# Altium integrated library HORNET-IPG.IntLib: 137 symbols (part 1 of 4)
Pins are listed as number, name and electrical type; pins without a type are passive.

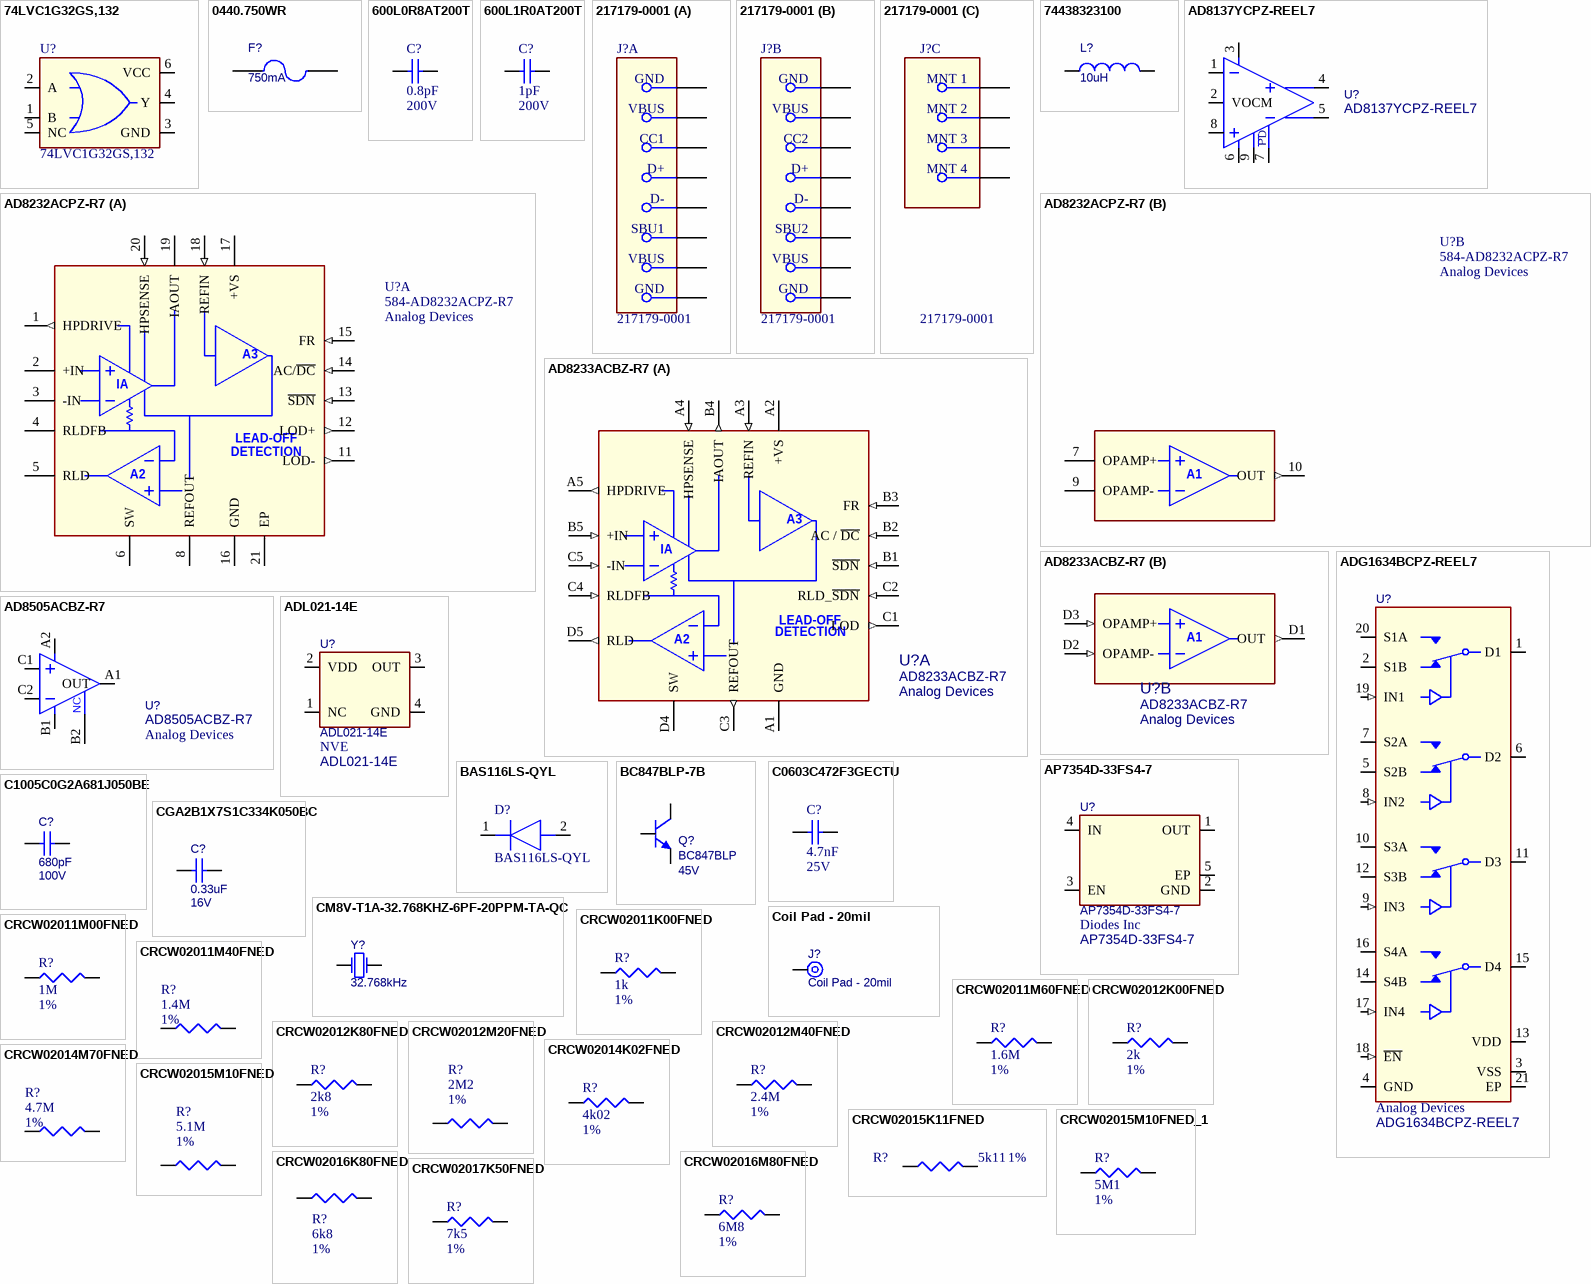
[diagram p0: symbols 74LVC1G32GS,132 to CRCW02017K50FNED]

## 74LVC1G32GS,132
designator U?
OR Gate IC 1 Channel 6-XSON, SOT1202 (1x1); Manufacturer: Nexperia; Operating Supply Current: 4 uA; Shutdown Capabilities: No; Category: Logic Gate; Type: OR; Manufacturer Part Number: 74LVC1G32GS,132; Supplier: TBD; Supplier Part Number: TBD; Mounting Type: SMD; Height: 0.46; Supplier 1: Mouser; Supplier Part Number 1: 771-74LVC1G32GS132; Supplier 2: Digikey; Supplier Part Number 2: 1727-74LVC1G32GS,132CT-ND; Supplier 3: Digikey; Supplier Part Number 3: 1727-74LVC1G32GS,132DKR-ND; Supplier 4: Digikey; Supplier Part Number 4: 1727-74LVC1G32GS,132TR-ND
footprint 74LVC1G3157GS132
pins: 1 B, 2 A, 3 GND, 4 Y, 5 NC, 6 VCC

## 0440.750WR
designator F?  value 750mA  (hidden comment: 0440.750WR)
Fuse, 750mA, 63V, 1206; Manufacturer: Littelfuse; Medical Grade MFR PN: 0440.750WRA; PCB Footprint: fuse1206_reduced; Review: 020823; Length (mm): 3.20 ±0.18; Medical Grade MFR: Littelfuse; Rating: 750mA; Thickness (mm): 0.84 ±0.01; Width (mm): 1.63 ±0.10; Category: Fuse; Supplier 1: Digi-Key; Supplier Part Number 1: F1603CT-ND; Status: Approved; Manufacturer Part Number: 0440.750WR
footprint LITTELFUSE_440series_1206_REDUCED (Fuse, 2-Leads, Body 3.20x1.63mm, IPC High Density)
pins: 1, 2

## 600L0R8AT200T
designator C?  value 0.8pF  Voltage Rating: 200V  (hidden comment: 600L0R8AT200T)
Capacitor, 0.8pF, Silicon RF, 200V, Tolerance 0.05pF, 0402, Implant-grade; Manufacturer: Kyocera AVX; Medical Grade Manufacturer: TBD; Temperature Coefficient: 30 ppm/°C; Category: Capacitor; Manufacturer Part Number: 600L0R8AT200T; Medical Grade Manufacturer Part Number: TBD; Size Code: 0402; Supplier: TBD; Supplier Part Number: TBD; Height: 0.6mm; Width: 0.51mm; Length: 1.05mm; Tolerance: 0.05pF; Dielectric: -; Supplier 1: Mouser; Supplier Part Number 1: 581-600L0R8AT
footprint CAP0402_REDUCED (Chip Capacitor, Body 1.0x0.5mm, Height 0.6mm, IPC High Density)
pins: 1, 2

## 600L1R0AT200T
designator C?  value 1pF  Voltage Rating: 200V  (hidden comment: 600L1R0AT200T)
Capacitor, 1pF, RF Capacitors, 200V, Tolerance 0.01pF, 0402, Implant-grade; Manufacturer: Kyocera AVX; Medical Grade Manufacturer: TBD; Temperature Coefficient: 30 ppm/°C; Category: Capacitor; Manufacturer Part Number: 600L1R0AT200T; Medical Grade Manufacturer Part Number: TBD; Size Code: 0402; Supplier: TBD; Supplier Part Number: TBD; Height: 0.6mm; Width: 0.51mm; Length: 1.02mm; Tolerance: 0.01pF; Dielectric: -; Supplier 1: Mouser; Supplier Part Number 1: 581-600L1R0AT
footprint CAP0402_REDUCED (Chip Capacitor, Body 1.0x0.5mm, Height 0.6mm, IPC High Density)
pins: 1, 2

## 217179-0001
designator J?
CONN RCP USB2.0 TYP C 16P SMD RA; Manufacturer: Molex; Number Of Contacts: 16; Voltage Rating: 30V; Shielding: true; Current Rating: 0.25/1.25/5A; Conn Orientation: Right Angle; Contact Material: Gold,Nickel; ComponentLink2Description: Datasheet; RoHS: TRUE; ComponentLink2URL: https://www.molex.com/webdocs/datasheets/pdf/en-us/1054500101_IO_CONNECTORS.pdf; Temperature: -30°C to +85°C; Usb Standard: USB 2.0; Manufacturer Part Number: 217179-0001; Supplier 1: Mouser; Supplier Part Number 1: 538-217179-0001
footprint 217179-0001; pin to pad B1>A12 B4>A9 B9>A4 B12>A1
part A pins: A1 GND, A4 VBUS, A5 CC1, A6 D+, A7 D-, A8 SBU1, A9 VBUS, A12 GND
part B pins: B1 GND, B4 VBUS, B5 CC2, B6 D+, B7 D-, B8 SBU2, B9 VBUS, B12 GND
part C pins: 1 MNT 1, 2 MNT 2, 3 MNT 3, 4 MNT 4

## 74438323100
designator L?  value 10uH  (hidden comment: 74438323100)
Inductor, 10uH, 600mA, 20%, 1008; Manufacturer: Wurth; Medical Grade MFR: TBD; Review: 020823; Length (mm): 2.50 ±0.20; Medical Grade MFR PN: TBD; PCB Footprint: TBD; Rating: 600mA; Thickness (mm): 1.00; Width (mm): 2.00 ±0.20; Category: Inductor; Supplier 1: Rs; Supplier Part Number 1: 7922736P; Status: Approved; Manufacturer Part Number: 74438323100
simulation model INDUCTOR (Inductor)
signal-integrity model Inductor
footprint WURTH_74438323100_REDUCED (Inductor, Chip; 2.50 mm L X 2.00 mm W X 1.00 mm H body)
pins: 1, 2

## AD8137YCPZ-REEL7
designator U?
Differential Amplifier, 110 MHz, DFN-8; Manufacturer: Analog Devices; Medical Grade MFR: TBD; Category: IC; Length (mm): 3.00 ±0.10; Medical Grade MFR PN: TBD; Package Description: TBD; PCB Footprint: TBD; Rating: TBD; Thickness (mm): 0.75 ±0.05; Value: AD8137YCPZ-REEL7; Width (mm): 3.00 ±0.10; Supplier 1: Digi-Key; Supplier Part Number 1: 505-AD8137YCPZ-REEL7CT-ND; Status: *; Review: *; Manufacturer Part Number: AD8137YCPZ-REEL7
footprint AD_CP-8-13 (PSON, 8-Leads, Body 3.00x3.00mm, Pitch 0.50mm, Thermal Pad 1.74x1.45mm, IPC High Density)
pins: 1 -IN, 2 VOCM, 3 VS+ (power), 4 +OUT, 5 -OUT, 6 VS- (power), 7 ~{PD}, 8 +IN, 9 EP
text: PD

## AD8232ACPZ-R7
designator U?  Supplier Part Number: 584-AD8232ACPZ-R7  Manufacturer: Analog Devices  (hidden comment: AD8232ACPZ-R7)
Analog Circuit, 1 Func, 1 Channel; Channels: 1; Max Supply Voltage: 3.5V; Min Supply Voltage: 2V; Nominal Supply Voltage: 3V; Voltage supply: 2-3.5V; Current supply: 170uA; CMRR: 80dB; Gain: 100V/V; Bandwidth: 2kHz; Supplier: Mouser; Manufacturer Part Number: AD8232ACPZ-R7; RoHS: Yes; Category: Amplifiers - Op Amps, Buffer, Instrumentation; Stock: 3930; Pricing: 1=4,71, 10=4,07, 50=4,07, 100=3,57, 1000=2,53, 10000=2,37 (USD); Case/Package: HVQCCN; Pins: 20; Package Shape: Square; Min Operating Temperature: -40°C; Max Operating Temperature: 85°C; Package Style: CHIP CARRIER, HEAT SINK/SLUG, VERY THIN PROFILEMeter; Surface Mount: Yes; Terminal Form: No Lead; Terminal Position: QUAD; Throw Configuration: ANALOG CIRCUIT; JESD-30 Code: S-XQCC-N20; Length: 4mm; Width: 4mm; Height - Seated (Max): 0.8mm; Terminal Pitch: 0.5mm; Temperature Grade: INDUSTRIAL; RoHS Compliant: Yes; Reach SVHC Compliant: Yes; ComponentLink1URL: https://datasheet.ciiva.com:443/pdfs/VipMasterIC/IC/ANDI/ANDI-S-A0005264682/ANDI-S-A0005264682-1.pdf?src-supplier=IHS+Markit; ComponentLink1Description: https://datasheet.ciiva.com:443/pdfs/VipMasterIC/IC/ANDI/ANDI-S-A0005264682/ANDI-S-A0005264682-1.pdf?src-supplier=IHS+Markit; ComponentLink2URL: https://datasheet.ciiva.com/6579/ad8232-6579751.pdf?src-supplier=Digi-Key; ComponentLink2Description: https://datasheet.ciiva.com/6579/ad8232-6579751.pdf?src-supplier=Digi-Key; ComponentLink3URL: https://datasheet.ciiva.com/6579/ad8232-6579754.pdf?src-supplier=Digi-Key; ComponentLink3Description: https://datasheet.ciiva.com/6579/ad8232-6579754.pdf?src-supplier=Digi-Key; ComponentLink4URL: https://datasheet.ciiva.com/6579/ad8232-6579770.pdf?src-supplier=Digi-Key; ComponentLink4Description: https://datasheet.ciiva.com/6579/ad8232-6579770.pdf?src-supplier=Digi-Key; Supplier 1: Mouser; Supplier Part Number 1: 584-AD8232ACPZ-R7
footprint FP-CP-20-8-IPC_C
part A pins: 1 HPDRIVE (out), 2 +IN (hiz), 3 -IN (hiz), 4 RLDFB, 5 RLD, 6 SW, 8 REFOUT, 11 LOD- (out), 12 LOD+ (out), 13 ~{SDN} (in), 14 AC/~{DC} (in), 15 FR (in), 16 GND (power), 17 +VS (power), 18 REFIN (in), 19 IAOUT, 20 HPSENSE (in), 21 EP (power)
part B pins: 7 OPAMP+ (hiz), 9 OPAMP- (hiz), 10 OUT (out)
part A text: A3; IA; LEAD-OFF; DETECTION; A2
part B text: A1

## AD8233ACBZ-R7
designator U?  Manufacturer: Analog Devices  (hidden comment: AD8233ACBZ-R7)
Analog front end, ECG, RLD amp, BGA-20; Medical Grade MFR: TBD; Voltage supply: 1.7-3.5V; Current supply: 50uA; CMRR: 86dB; Gain: 40dB; Bandwidth: 1kHz; Category: IC; Length (mm): 2.04 ±0.04; Medical Grade MFR PN: TBD; Package Description: TBD; PCB Footprint: TBD; Rating: TBD; Thickness (mm): 0.50 ±0.06; Value: AD8233ACBZ-R7; Width (mm): 1.71 ±0.04; Supplier 1: Digi-Key; Supplier Part Number 1: 505-AD8233ACBZ-R7CT-ND; Status: *; Review: *; Manufacturer Part Number: AD8233ACBZ-R7
footprint AD8233ACBZ-R7 (IC ECG FRONT END 20WLCSP)
part A pins: A1 GND (power), A2 +VS (power), A3 REFIN (in), A4 HPSENSE (in), A5 HPDRIVE (out), B1 ~{SDN} (in), B2 AC / ~{DC} (in), B3 FR (in), B4 IAOUT (out), B5 +IN (in), C1 LOD (out), C2 RLD_~{SDN} (in), C3 REFOUT (out), C4 RLDFB (in), C5 -IN (in), D4 SW, D5 RLD (out)
part B pins: D1 OUT (out), D2 OPAMP- (in), D3 OPAMP+ (in)
part A text: IA; LEAD-OFF; DETECTION

## AD8505ACBZ-R7
designator U?  Manufacturer: Analog Devices  (hidden comment: AD8505ACBZ-R7)
Op Amp, Rail-to-Rail, 95kHz, WLCSP-6; Medical Grade MFR: TBD; Rating: 5.5V; Category: IC; Length (mm): 1.39 ±0.04; Medical Grade MFR PN: TBD; PCB Footprint: TBD; Thickness (mm): 0.56 ±0.05; Width (mm): 0.90 ±0.04; Package Description: TBD; Supplier 1: Digi-Key; Supplier Part Number 1: AD8505ACBZ-R7CT-ND; Status: *; Review: *; Manufacturer Part Number: AD8505ACBZ-R7; Value: AD8505ACBZ-R7
footprint AD8505ACBZ-R7 (AD8505ACBZ-6-Ball Wafer Level Chip Scale Package)
pins: A1 OUT, A2 V+ (power), B1 V- (power), B2 NC (power), C1 IN+, C2 IN-

## ADG1634BCPZ-REEL7
designator U?  Manufacturer: Analog Devices  (hidden comment: ADG1634BCPZ-REEL7)
IC SWITCH SPDTX4 4.5OHM 20LFCSP; PCB Footprint: TBD; Category: IC; Length (mm): 4.00 ±0.10; Manufacturer Part Number: ADG1634BCPZ-REEL7; Medical Grade MFR: N/A; Medical Grade MFR PN: N/A; Rating: TBD; Thickness (mm): 0.75 ±0.05; Width (mm): 4.00 ±0.10; Package Description: TBD; Supplier 1: Digi-Key; Supplier Part Number 1: 505-ADG1634BCPZ-REEL7CT-ND; Status: *; Review: *; Value: ADG1634BCPZ-REEL7
footprint AD_CP-20-10 (Quad Flat No-Lead (QFN with Tab), 0.50 mm pitch; square, 5 pin X 5 pin, 4.00 mm L X 4.00 mm W X 0.80 mm H body)
pins: 1 D1, 2 S1B, 3 VSS (power), 4 GND (power), 5 S2B, 6 D2, 7 S2A, 8 IN2 (in), 9 IN3 (in), 10 S3A, 11 D3, 12 S3B, 13 VDD (power), 14 S4B, 15 D4, 16 S4A, 17 IN4 (in), 18 ~{EN} (in), 19 IN1 (in), 20 S1A, 21 EP (power)

## ADL021-14E
designator U?  Manufacturer: NVE
Magnet Sensor, 15 Gauss, ULLGA4, Implant-grade; Medical Grade MFR PN: BD020-14E; PCB Footprint: TBD; Length (mm): 1.10; Medical Grade MFR: NVE; Rating: N/A; Thickness (mm): 0.40; Value: ADL021-14E; Width (mm): 1.10; Category: IC; Package Description: TBD; Supplier 1: Digi-Key; Supplier Part Number 1: 391-ADL021-14ECT-ND; Status: *; Review: *; Manufacturer Part Number: ADL021-14E
footprint NVE_ULLGA4 (PSON, 4-Leads, Body 1.10x1.10mm, Pitch 0.65mm, IPC High Density)
pins: 1 NC, 2 VDD (power), 3 OUT, 4 GND (power)

## AP7354D-33FS4-7
designator U?  Manufacturer: Diodes Inc
LDO Regulator, 3.3V, Shutdown, DFN1010-4; Medical Grade MFR: TBD; Length (mm): 1.00 ±0.05; Medical Grade MFR PN: TBD; PCB Footprint: TBD; Rating: 3.3V; Thickness (mm): 0.39 ±0.01; Value: AP7354D-33FS4-7; Width (mm): 1.00 ±0.05; Category: IC; Package Description: TBD; Supplier 1: Digi-Key; Supplier Part Number 1: AP7354D-33FS4-7DICT-ND; Supplier Link: https://octopart.com/search?q=AP7354D-33FS4-7&filter%5Bfields%5D%5Bbrand.name%5D%5B%5D=Diodes+Inc.4-7; Status: *; Review: *; Manufacturer Part Number: AP7354D-33FS4-7
footprint X2-DFN1010-4 (Type B) (DFN, 5-Leads, Body 1.00x1.10mm, Pitch 0.65mm)
pins: 1 OUT, 2 GND (power), 3 EN, 4 IN, 5 EP

## BAS116LS-QYL
designator D?
Diode; Manufacturer: Nexperia; Datasheet Link: https://assets.nexperia.com/documents/data-sheet/BAS116LS-Q.pdf; Height: 0.5mm; Mouser Part Number: 771-BAS116LS-QYL; Mouser Price/Stock: https://www.mouser.co.uk/ProductDetail/Nexperia/BAS116LS-QYL?qs=Li%252BoUPsLEnuSHegtSMB1TQ%3D%3D; Arrow Part Number: BAS116LS-QYL; Arrow Price/Stock: https://www.arrow.com/en/products/bas116ls-qyl/nexperia?region=nac; Supplier 1: Digikey; Supplier Part Number 1: 1727-BAS116LS-QYLCT-ND; Manufacturer Part Number: BAS116LS-QYL
footprint BAS116LSQYL
pins: 1 K, 2 A

## BC847BLP-7B
designator Q?  value BC847BLP  Rating: 45V  (hidden comment: BC847BLP-7B)
Transistor, NPN, 45V, 100mA, DFN1006; Manufacturer: Diodes Inc; Medical Grade MFR: TBD; Category: Transistor; Length (mm): 1.00 ±0.08; Medical Grade MFR PN: TBD; PCB Footprint: TBD; Thickness (mm): 0.50 ±0.03; Width (mm): 0.60 ±0.08; Supplier 1: Digi-Key; Supplier Part Number 1: BC847BLP-7BDICT-ND; Status: *; Review: *; Manufacturer Part Number: BC847BLP-7B
footprint DIODESINC_X1-DFN1006-3 (DFN, 3-Leads, Body 0.5x1.01mm, Pitch 0.65mm, IPC High Density)
pins: 1 B, 2 E, 3 C

## C0603C472F3GECTU
designator C?  value 4.7nF  Voltage Rating: 25V  (hidden comment: C0603C472F3GECTU)
Capacitor, 4.7nF, C0G, 25V, 1%, 0603, Implant-grade; Manufacturer: KEMET; Medical Grade Manufacturer: TBD; Category: Capacitor; Temperature Coefficient: -; Manufacturer Part Number: C0603C472F3GECTU; Medical Grade Manufacturer Part Number: TBD; Size Code: 0805; Supplier: -; Supplier Part Number: -; Height: 0.78mm; Width: 1.25mm; Length: 2mm; Tolerance: 1%; Dielectric: C0G; Supplier 1: Mouser; Supplier Part Number 1: 80-C0603C472F3GEC
footprint CAP0603_REDUCED (Chip Capacitor, Body 1.6x0.8mm, Height 1.0mm, IPC High Density)
pins: 1, 2

## C1005C0G2A681J050BE
designator C?  value 680pF  Rating: 100V  (hidden comment: C1005C0G2A681J050BE)
Capacitor, 680pF, C0G, 100V, 5%, 0402; Manufacturer: TDK; Medical Grade MFR: TBD; Review: 020823; Length (mm): 1.00 ±0.10; Medical Grade MFR PN: TBD; PCB Footprint: TBD; Thickness (mm): 0.50 ±0.10; Width (mm): 0.50 ±0.10; Category: Capacitor; Package Description: 0402; Supplier 1: Arrow Electronics; Supplier Part Number 1: C1005C0G2A681J050BE; Status: Approved; Manufacturer Part Number: C1005C0G2A681J050BE
simulation model CAP (Capacitor)
signal-integrity model Cap
footprint CAP0402_REDUCED (Chip Capacitor, Body 1.0x0.5mm, Height 0.6mm, IPC High Density)
pins: 1, 2

## CGA2B1X7S1C334K050BC
designator C?  value 0.33uF  Rating: 16V  (hidden comment: CGA2B1X7S1C334K050BC)
Capacitor, 0.33uF, X7S, 16V, 10%, 0402; Manufacturer: TDK; Medical Grade MFR: TBD; PCB Footprint: cap0402_reduced; Review: 020823; Length (mm): 1.00 ±0.05; Medical Grade MFR PN: TBD; Thickness (mm): 0.50 ±0.05; Width (mm): 0.50 ±0.05; Category: Capacitor; Package Description: 0402; Supplier 1: Arrow Electronics; Supplier Part Number 1: CGA2B1X7S1C334K050BC; Status: Approved; Manufacturer Part Number: CGA2B1X7S1C334K050BC
simulation model CAP (Capacitor)
signal-integrity model Cap
footprint CAP0402_REDUCED (Chip Capacitor, Body 1.0x0.5mm, Height 0.6mm, IPC High Density)
pins: 1, 2

## CM8V-T1A-32.768KHZ-6PF-20PPM-TA-QC
designator Y?  value 32.768kHz  (hidden comment: CM8V-T1A-32.768KHZ-6PF-20PPM-TA-QC)
CRYSTAL 32.7680KHZ 6PF SMD; Manufacturer: Micro Crystal; Medical Grade MFR PN: CC8V-T1A32.768kHz6.0pF±20ppmTAQM; PCB Footprint: TBD; Review: 020823; Category: Crystal; Length (mm): 2.00; Medical Grade MFR: Micro Crystal; Rating: N/A; Thickness (mm): 0.67; Width (mm): 1.20; Package Description: CC8V; Supplier 1: Digi-Key; Supplier Part Number 1: 2195-CM8V-T1A-32.768KHZ-6PF-20PPM-TA-QCCT-ND; Status: Approved; Manufacturer Part Number: CM8V-T1A-32.768KHZ-6PF-20PPM-TA-QC
footprint MICROCRYSTAL_CC8V-T1A (DFN, 2-Leads, Body 1.20x2.00mm, Pitch 1.47mm, IPC High Density)
pins: 1, 2

## Coil Pad - 20mil
designator J?  (no BOM)
Coil TH pad, 20mil; PCB Footprint: TBD; Value: Coil Solder Pad; Category: Coil Solder Pad; Length (mm): TBD; Manufacturer: N/A; Manufacturer PN: N/A; Medical Grade MFR: N/A; Medical Grade MFR PN: N/A; Rating: N/A; Thickness (mm): N/A; Width (mm): TBD; Package Description: N/A; Status: *; Review: *
footprint FEEDHOLE_20mil (Feedthrough hole 20mil)
pins: 1

## CRCW02011K00FNED
designator R?  value 1k  Tolerance: 1%  (hidden comment: CRCW02011K00FNED)
Fixed Resistor, Metal Glaze/thick Film, 0.05W, 1000ohm, 30V, 1% +/-Tol, 200ppm/Cel, Surface Mount, 0201; Manufacturer: Vishay; Medical Grade MFR: Mini-Systems; Medical Grade MFR PN: MWA96SM-1001F-NS62TR; Power: 50mW; Rated Temperature: 70°C; Temperature Coefficient: 200ppm/°C; Package Height: 0.23mm; Package Length: 0.6mm; Package Width: 0.3mm; Reference Standard: AEC-Q200; Category: Chip SMD Resistors; Supplier: Digikey; Supplier Part Number: 541-1.00KABCT-ND; Manufacturer Part Number: CRCW02011K00FNED; RoHS: Yes; Stock: 303224; Pricing: 1=0,1, 10=0,037, 50=0,0242, 100=0,0204, 500=0,01426, 1000=0,01241, 5000=0,00924 (USD); Mounting Technology: Surface Mount; Pins: 2; Package Shape: Rectangular; Case/Package: 0201; Terminal Finish: Nickel; Min Operating Temperature: -55°C; Max Operating Temperature: 155°C; JESD-609 Code: e3; Resistor Type: FIXED RESISTOR; Construction: Chip; Package Style: SMTMeter; Packaging: Tape and Reel; Technology: METAL GLAZE/THICK FILM; Termination: Wraparound; Working Voltage: 30V; Reach SVHC Compliant: Yes; RoHS Compliant: Yes; ComponentLink1URL: https://datasheet.ciiva.com:443/pdfs/VipMasterIC/IC/VISH/VISH-S-A0002932828/VISH-S-A0002932828-1.pdf?src-supplier=IHS+Markit; ComponentLink1Description: https://datasheet.ciiva.com:443/pdfs/VipMasterIC/IC/VISH/VISH-S-A0002932828/VISH-S-A0002932828-1.pdf?src-supplier=IHS+Markit; ComponentLink2URL: https://datasheet.ciiva.com/7983/1719906-7983324.pdf?src-supplier=Element14; ComponentLink2Description: https://datasheet.ciiva.com/7983/1719906-7983324.pdf?src-supplier=Element14; ComponentLink3URL: https://datasheet.ciiva.com/7983/1719906-7983323.pdf?src-supplier=Element14; ComponentLink3Description: https://datasheet.ciiva.com/7983/1719906-7983323.pdf?src-supplier=Element14; ComponentLink4URL: https://datasheet.ciiva.com/22692/1719906-22692751.pdf?src-supplier=Element14; ComponentLink4Description: https://datasheet.ciiva.com/22692/1719906-22692751.pdf?src-supplier=Element14; ComponentLink5URL: https://datasheet.ciiva.com/22665/1825492-22665818.pdf?src-supplier=Element14; ComponentLink5Description: https://datasheet.ciiva.com/22665/1825492-22665818.pdf?src-supplier=Element14; ComponentLink6URL: https://datasheet.ciiva.com/2474/crcw0201e3-2474801.pdf?src-supplier=Digikey; ComponentLink6Description: https://datasheet.ciiva.com/2474/crcw0201e3-2474801.pdf?src-supplier=Digikey; ComponentLink7URL: https://datasheet.ciiva.com/2474/crcw0201e3-2474802.pdf?src-supplier=Digikey; ComponentLink7Description: https://datasheet.ciiva.com/2474/crcw0201e3-2474802.pdf?src-supplier=Digikey; ComponentLink8URL: https://datasheet.ciiva.com/2474/crcw0201e3-2474800.pdf?src-supplier=Digikey; ComponentLink8Description: https://datasheet.ciiva.com/2474/crcw0201e3-2474800.pdf?src-supplier=Digikey; ComponentLink9URL: https://datasheet.ciiva.com/22871/70202042-22871422.pdf?src-supplier=Allied+Electronics; ComponentLink9Description: https://datasheet.ciiva.com/22871/70202042-22871422.pdf?src-supplier=Allied+Electronics; ComponentLink10URL: https://datasheet.ciiva.com/3255/crcw0201e3-3255929.pdf?src-supplier=Avnet; ComponentLink10Description: https://datasheet.ciiva.com/3255/crcw0201e3-3255929.pdf?src-supplier=Avnet; Supplier 1: Arrow Electronics; Supplier Part Number 1: CRCW02011K00FNED
footprint R0201_C (Chip Resistor, 2-Leads, Body 0.60x0.30mm, IPC High Density)
pins: 1, 2

## CRCW02011M00FNED
designator R?  value 1M  Tolerance: 1%  (hidden comment: CRCW02011M00FNED)
Fixed Resistor, Metal Glaze/thick Film, 0.05W, 1000000ohm, 30V, 1% +/-Tol, 200ppm/Cel, Surface Mount, 0201; Manufacturer: Vishay; Medical Grade MFR: Mini-Systems; Medical Grade MFR PN: MWA96SM-1004F-NS62TR; Power: 50mW; Rated Temperature: 70°C; Temperature Coefficient: 200ppm/°C; Package Height: 0.23mm; Package Length: 0.6mm; Package Width: 0.3mm; Reference Standard: AEC-Q200; Category: Chip SMD Resistors; Supplier: Digikey; Supplier Part Number: 541-1.00MABCT-ND; Manufacturer Part Number: CRCW02011M00FNED; RoHS: Yes; Stock: 392914; Pricing: 1=0,1, 10=0,037, 50=0,0242, 100=0,0204, 500=0,01426, 1000=0,01241, 5000=0,00924 (USD); Mounting Technology: Surface Mount; Pins: 2; Package Shape: Rectangular; Case/Package: 0201; Terminal Finish: Nickel; Min Operating Temperature: -55°C; Max Operating Temperature: 155°C; JESD-609 Code: e3; Resistor Type: FIXED RESISTOR; Construction: Chip; Package Style: SMTMeter; Packaging: Tape and Reel; Technology: METAL GLAZE/THICK FILM; Termination: Wraparound; Working Voltage: 30V; Reach SVHC Compliant: Yes; RoHS Compliant: Yes; ComponentLink1URL: https://datasheet.ciiva.com:443/pdfs/VipMasterIC/IC/VISH/VISH-S-A0002932828/VISH-S-A0002932828-1.pdf?src-supplier=IHS+Markit; ComponentLink1Description: https://datasheet.ciiva.com:443/pdfs/VipMasterIC/IC/VISH/VISH-S-A0002932828/VISH-S-A0002932828-1.pdf?src-supplier=IHS+Markit; ComponentLink2URL: https://datasheet.ciiva.com/7841/1719906-7841438.pdf?src-supplier=Element14; ComponentLink2Description: https://datasheet.ciiva.com/7841/1719906-7841438.pdf?src-supplier=Element14; ComponentLink3URL: https://datasheet.ciiva.com/7841/1719906-7841439.pdf?src-supplier=Element14; ComponentLink3Description: https://datasheet.ciiva.com/7841/1719906-7841439.pdf?src-supplier=Element14; ComponentLink4URL: https://datasheet.ciiva.com/7859/dcrcwe3-7859689.pdf?src-supplier=Element14; ComponentLink4Description: https://datasheet.ciiva.com/7859/dcrcwe3-7859689.pdf?src-supplier=Element14; ComponentLink5URL: https://datasheet.ciiva.com/16757/70202042-16757675.pdf?src-supplier=Allied+Electronics; ComponentLink5Description: https://datasheet.ciiva.com/16757/70202042-16757675.pdf?src-supplier=Allied+Electronics; ComponentLink6URL: https://datasheet.ciiva.com/22692/1719906-22692761.pdf?src-supplier=Element14; ComponentLink6Description: https://datasheet.ciiva.com/22692/1719906-22692761.pdf?src-supplier=Element14; ComponentLink7URL: https://datasheet.ciiva.com/9109/crcw0201e3-9109910.pdf?src-supplier=Avnet; ComponentLink7Description: https://datasheet.ciiva.com/9109/crcw0201e3-9109910.pdf?src-supplier=Avnet; ComponentLink8URL: https://datasheet.ciiva.com/22675/1847332-22675065.pdf?src-supplier=Element14; ComponentLink8Description: https://datasheet.ciiva.com/22675/1847332-22675065.pdf?src-supplier=Element14; ComponentLink9URL: https://datasheet.ciiva.com/2474/crcw0201e3-2474824.pdf?src-supplier=Digikey; ComponentLink9Description: https://datasheet.ciiva.com/2474/crcw0201e3-2474824.pdf?src-supplier=Digikey; ComponentLink10URL: https://datasheet.ciiva.com/2474/crcw0201e3-2474825.pdf?src-supplier=Digikey; ComponentLink10Description: https://datasheet.ciiva.com/2474/crcw0201e3-2474825.pdf?src-supplier=Digikey; ComponentLink11URL: https://datasheet.ciiva.com/2474/crcw0201e3-2474826.pdf?src-supplier=Digikey; ComponentLink11Description: https://datasheet.ciiva.com/2474/crcw0201e3-2474826.pdf?src-supplier=Digikey; Supplier 1: Digikey; Supplier Part Number 1: 541-1.00MABCT-ND
footprint R0201_C (Chip Resistor, 2-Leads, Body 0.60x0.30mm, IPC High Density)
pins: 1, 2

## CRCW02011M40FNED
designator R?  value 1.4M  Tolerance: 1%  (hidden comment: CRCW02011M40FNED)
Fixed Resistor, Metal Glaze/thick Film, 0.05W, 1400000ohm, 30V, 1% +/-Tol, 200ppm/Cel, Surface Mount, 0201; Manufacturer: Vishay Draloric; Medical Grade MFR: Mini-Systems; Medical Grade MFR PN: MWA96SM-1404F-NS62TR; Power: 50mW; Rated Temperature: 70°C; Temperature Coefficient: 200ppm/°C; Category: Chip SMD Resistors; Supplier: Digikey; Supplier Part Number: 541-CRCW02011M40FNEDCT-ND; Manufacturer Part Number: CRCW02011M40FNED; RoHS: Yes; Stock: 24065; Pricing: 1=0,1, 10=0,037, 50=0,0242, 100=0,0204, 500=0,01426, 1000=0,01241, 5000=0,00924 (USD); Mounting Technology: Surface Mount; Pins: 2; Package Shape: Rectangular; Case/Package: 0201; Terminal Finish: Nickel; Min Operating Temperature: -55°C; Max Operating Temperature: 155°C; JESD-609 Code: e3; Resistor Type: FIXED RESISTOR; Packaging: Tape and Reel; Technology: METAL GLAZE/THICK FILM; Termination: Wraparound; Working Voltage: 30V; Reach SVHC Compliant: Yes; RoHS Compliant: Yes; ComponentLink1URL: https://datasheet.ciiva.com:443/pdfs/VipMasterIC/IC/VISH/VISH-S-A0002932828/VISH-S-A0002932828-1.pdf?src-supplier=IHS+Markit; ComponentLink1Description: https://datasheet.ciiva.com:443/pdfs/VipMasterIC/IC/VISH/VISH-S-A0002932828/VISH-S-A0002932828-1.pdf?src-supplier=IHS+Markit; ComponentLink2URL: http://www.farnell.com/datasheets/2111203.pdf?src-supplier=Farnell; ComponentLink2Description: http://www.farnell.com/datasheets/2111203.pdf?src-supplier=Farnell; ComponentLink3URL: http://www.farnell.com/datasheets/2238160.pdf?src-supplier=Farnell; ComponentLink3Description: http://www.farnell.com/datasheets/2238160.pdf?src-supplier=Farnell; ComponentLink4URL: http://www.farnell.com/datasheets/2111203.pdf?src-supplier=Element14; ComponentLink4Description: http://www.farnell.com/datasheets/2111203.pdf?src-supplier=Element14; ComponentLink5URL: http://www.farnell.com/datasheets/2045973.pdf?src-supplier=Element14; ComponentLink5Description: http://www.farnell.com/datasheets/2045973.pdf?src-supplier=Element14; ComponentLink6URL: http://www.farnell.com/datasheets/1719906.pdf?src-supplier=Element14; ComponentLink6Description: http://www.farnell.com/datasheets/1719906.pdf?src-supplier=Element14; ComponentLink7URL: http://www.vishay.com/docs/20052/crcw0201e3.pdf?src-supplier=Digikey; ComponentLink7Description: http://www.vishay.com/docs/20052/crcw0201e3.pdf?src-supplier=Digikey; Supplier 1: Digikey; Supplier Part Number 1: 541-CRCW02011M40FNEDCT-ND
footprint R0201_C (Chip Resistor, 2-Leads, Body 0.60x0.30mm, IPC High Density)
pins: 1, 2

## CRCW02011M60FNED
designator R?  value 1.6M  Tolerance: 1%  (hidden comment: CRCW02011M60FNED)
Fixed Resistor, Metal Glaze/thick Film, 0.05W, 1600000ohm, 30V, 1% +/-Tol, 200ppm/Cel, Surface Mount, 0201; Manufacturer: Vishay Dale; Medical Grade MFR: TBD; Power: 50mW; Rated Temperature: 70°C; Temperature Coefficient: 200ppm/°C; Category: Chip SMD Resistors; Manufacturer Part Number: CRCW02011M60FNED; RoHS: Yes; Stock: 32348; Pricing: 1=0,1, 10=0,037, 50=0,0242, 100=0,0204, 500=0,01426, 1000=0,01241, 5000=0,00924 (USD); Mounting Technology: Surface Mount; Pins: 2; Package Shape: Rectangular; Case/Package: 0201; Terminal Finish: Nickel; Min Operating Temperature: -55°C; Max Operating Temperature: 155°C; JESD-609 Code: e3; Resistor Type: FIXED RESISTOR; Packaging: Tape and Reel; Technology: METAL GLAZE/THICK FILM; Termination: Wraparound; Working Voltage: 30V; Reach SVHC Compliant: Yes; RoHS Compliant: Yes; ComponentLink1URL: https://datasheet.ciiva.com:443/pdfs/VipMasterIC/IC/VISH/VISH-S-A0002932828/VISH-S-A0002932828-1.pdf?src-supplier=IHS+Markit; ComponentLink1Description: https://datasheet.ciiva.com:443/pdfs/VipMasterIC/IC/VISH/VISH-S-A0002932828/VISH-S-A0002932828-1.pdf?src-supplier=IHS+Markit; ComponentLink2URL: https://datasheet.ciiva.com/7800/1719906-7800925.pdf?src-supplier=Element14; ComponentLink2Description: https://datasheet.ciiva.com/7800/1719906-7800925.pdf?src-supplier=Element14; ComponentLink3URL: https://datasheet.ciiva.com/7800/1719906-7800926.pdf?src-supplier=Element14; ComponentLink3Description: https://datasheet.ciiva.com/7800/1719906-7800926.pdf?src-supplier=Element14; ComponentLink4URL: https://datasheet.ciiva.com/22675/1700795-22675997.pdf?src-supplier=Element14; ComponentLink4Description: https://datasheet.ciiva.com/22675/1700795-22675997.pdf?src-supplier=Element14; ComponentLink5URL: https://datasheet.ciiva.com/22692/1719906-22692765.pdf?src-supplier=Element14; ComponentLink5Description: https://datasheet.ciiva.com/22692/1719906-22692765.pdf?src-supplier=Element14; Medical Grade MFR PN: TBD; Supplier 1: Digikey; Supplier Part Number 1: 541-CRCW02011M60FNEDCT-ND
footprint R0201_C (Chip Resistor, 2-Leads, Body 0.60x0.30mm, IPC High Density)
pins: 1, 2

## CRCW02012K00FNED
designator R?  value 2k  Tolerance: 1%  (hidden comment: CRCW02012K00FNED)
Fixed Resistor, Metal Glaze/thick Film, 0.05W, 2000ohm, 30V, 1% +/-Tol, 200ppm/Cel, Surface Mount, 0201; Manufacturer: Vishay Dale; Medical Grade MFR: Mini-Systems; Medical Grade MFR PN: MWA96SM-4021F-NS62TR; Power: 50mW; Rated Temperature: 70°C; Temperature Coefficient: 200ppm/°C; Package Height: 0.23mm; Package Length: 0.6mm; Package Width: 0.3mm; Reference Standard: AEC-Q200; Category: Chip SMD Resistors; Manufacturer Part Number: CRCW02012K00FNED; RoHS: Yes; Stock: 14472; Pricing: 1=0,1, 10=0,037, 50=0,0242, 100=0,0204, 500=0,01426, 1000=0,01241, 5000=0,00924 (USD); Mounting Technology: Surface Mount; Pins: 2; Package Shape: Rectangular; Case/Package: 0201; Terminal Finish: Nickel; Min Operating Temperature: -55°C; Max Operating Temperature: 155°C; JESD-609 Code: e3; Termination: Wraparound; Resistor Type: FIXED RESISTOR; Construction: Chip; Package Style: SMTMeter; Packaging: Tape and Reel; Technology: METAL GLAZE/THICK FILM; Working Voltage: 30V; Reach SVHC Compliant: Yes; RoHS Compliant: Yes; ComponentLink1URL: https://datasheet.ciiva.com:443/pdfs/VipMasterIC/IC/VISH/VISH-S-A0002932828/VISH-S-A0002932828-1.pdf?src-supplier=IHS+Markit; ComponentLink1Description: https://datasheet.ciiva.com:443/pdfs/VipMasterIC/IC/VISH/VISH-S-A0002932828/VISH-S-A0002932828-1.pdf?src-supplier=IHS+Markit; Supplier 1: Digikey; Supplier Part Number 1: 541-2.00KABCT-ND; ComponentLink2URL: https://datasheet.ciiva.com/7690/1719906-7690620.pdf?src-supplier=Element14; ComponentLink2Description: https://datasheet.ciiva.com/7690/1719906-7690620.pdf?src-supplier=Element14; ComponentLink3URL: https://datasheet.ciiva.com/7690/1719906-7690621.pdf?src-supplier=Element14; ComponentLink3Description: https://datasheet.ciiva.com/7690/1719906-7690621.pdf?src-supplier=Element14; ComponentLink4URL: https://datasheet.ciiva.com/9074/crcw0201e3-9074873.pdf?src-supplier=Avnet; ComponentLink4Description: https://datasheet.ciiva.com/9074/crcw0201e3-9074873.pdf?src-supplier=Avnet; ComponentLink5URL: https://datasheet.ciiva.com/22675/1700795-22675166.pdf?src-supplier=Element14; ComponentLink5Description: https://datasheet.ciiva.com/22675/1700795-22675166.pdf?src-supplier=Element14
footprint R0201_C (Chip Resistor, 2-Leads, Body 0.60x0.30mm, IPC High Density)
pins: 1, 2

## CRCW02012K80FNED
designator R?  value 2k8  Tolerance: 1%  (hidden comment: CRCW02012K80FNED)
Fixed Resistor, Metal Glaze/thick Film, 0.05W, 2800ohm, 30V, 1% +/-Tol, 200ppm/Cel, Surface Mount, 0201; Manufacturer: Vishay; Medical Grade MFR: Mini-Systems; Medical Grade MFR PN: MWA96SM-2801F-NS62TR; Power: 50mW; Rated Temperature: 70°C; Temperature Coefficient: 200ppm/°C; Package Height: 0.23mm; Package Length: 0.6mm; Package Width: 0.3mm; Reference Standard: AEC-Q200; Category: Chip SMD Resistors; Supplier: Digikey; Supplier Part Number: 541-CRCW02012K80FNEDCT-ND; Manufacturer Part Number: CRCW02012K80FNED; RoHS: Yes; Stock: 8141; Pricing: 1=0,1, 10=0,037, 50=0,0242, 100=0,0204, 500=0,01426, 1000=0,01241, 5000=0,00924 (USD); Mounting Technology: Surface Mount; Pins: 2; Package Shape: Rectangular; Case/Package: 0201; Terminal Finish: Nickel; Min Operating Temperature: -55°C; Max Operating Temperature: 155°C; JESD-609 Code: e3; Resistor Type: FIXED RESISTOR; Construction: Chip; Package Style: SMTMeter; Packaging: Tape and Reel; Technology: METAL GLAZE/THICK FILM; Termination: Wraparound; Working Voltage: 30V; Reach SVHC Compliant: Yes; RoHS Compliant: Yes; ComponentLink1URL: https://datasheet.ciiva.com:443/pdfs/VipMasterIC/IC/VISH/VISH-S-A0002932828/VISH-S-A0002932828-1.pdf?src-supplier=IHS+Markit; ComponentLink1Description: https://datasheet.ciiva.com:443/pdfs/VipMasterIC/IC/VISH/VISH-S-A0002932828/VISH-S-A0002932828-1.pdf?src-supplier=IHS+Markit; ComponentLink2URL: https://datasheet.ciiva.com/5915/1719906-5915662.pdf?src-supplier=Farnell; ComponentLink2Description: https://datasheet.ciiva.com/5915/1719906-5915662.pdf?src-supplier=Farnell; ComponentLink3URL: https://datasheet.ciiva.com/5915/1719906-5915663.pdf?src-supplier=Farnell; ComponentLink3Description: https://datasheet.ciiva.com/5915/1719906-5915663.pdf?src-supplier=Farnell; ComponentLink4URL: https://datasheet.ciiva.com/7690/1719906-7690602.pdf?src-supplier=Element14; ComponentLink4Description: https://datasheet.ciiva.com/7690/1719906-7690602.pdf?src-supplier=Element14; ComponentLink5URL: https://datasheet.ciiva.com/7690/1719906-7690603.pdf?src-supplier=Element14; ComponentLink5Description: https://datasheet.ciiva.com/7690/1719906-7690603.pdf?src-supplier=Element14; ComponentLink6URL: https://datasheet.ciiva.com/22700/1719906-22700665.pdf?src-supplier=Element14; ComponentLink6Description: https://datasheet.ciiva.com/22700/1719906-22700665.pdf?src-supplier=Element14; Supplier 1: Digikey; Supplier Part Number 1: 541-CRCW02012K80FNEDCT-ND
footprint R0201_C (Chip Resistor, 2-Leads, Body 0.60x0.30mm, IPC High Density)
pins: 1, 2

## CRCW02012M20FNED
designator R?  value 2M2  Tolerance: 1%  (hidden comment: CRCW02012M20FNED)
Fixed Resistor, Metal Glaze/thick Film, 0.05W, 2200000ohm, 30V, 1% +/-Tol, 200ppm/Cel, Surface Mount, 0201; Manufacturer: Vishay Draloric; Medical Grade MFR: TBD; Power: 50mW; Temperature Coefficient: 200ppm/°C; Rated Temperature: 70°C; Supplier: Digikey; Supplier Part Number: 541-CRCW02012M20FNEDCT-ND; Manufacturer Part Number: CRCW02012M20FNED; RoHS: Yes; Category: Chip SMD Resistors; Stock: 17414; Pricing: 1=0,1, 10=0,037, 50=0,0242, 100=0,0204, 500=0,01426, 1000=0,01241, 5000=0,00924 (USD); Mounting Technology: Surface Mount; Pins: 2; Case/Package: 0201; Terminal Finish: Nickel; Package Shape: Rectangular; Min Operating Temperature: -55°C; Max Operating Temperature: 155°C; JESD-609 Code: e3; Resistor Type: FIXED RESISTOR; Packaging: Tape and Reel; Technology: METAL GLAZE/THICK FILM; Working Voltage: 30V; Termination: Wraparound; Reach SVHC Compliant: Yes; RoHS Compliant: Yes; ComponentLink1URL: https://datasheet.ciiva.com:443/pdfs/VipMasterIC/IC/VISH/VISH-S-A0002932828/VISH-S-A0002932828-1.pdf?src-supplier=IHS+Markit; ComponentLink1Description: https://datasheet.ciiva.com:443/pdfs/VipMasterIC/IC/VISH/VISH-S-A0002932828/VISH-S-A0002932828-1.pdf?src-supplier=IHS+Markit; ComponentLink2URL: https://datasheet.ciiva.com/7800/1719906-7800943.pdf?src-supplier=Element14; ComponentLink2Description: https://datasheet.ciiva.com/7800/1719906-7800943.pdf?src-supplier=Element14; ComponentLink3URL: https://datasheet.ciiva.com/22682/1700795-22682622.pdf?src-supplier=Element14; ComponentLink3Description: https://datasheet.ciiva.com/22682/1700795-22682622.pdf?src-supplier=Element14; ComponentLink4URL: https://datasheet.ciiva.com/22702/1719906-22702669.pdf?src-supplier=Element14; ComponentLink4Description: https://datasheet.ciiva.com/22702/1719906-22702669.pdf?src-supplier=Element14; ComponentLink5URL: https://datasheet.ciiva.com/29926/crcw0201e3-29926006.pdf?src-supplier=Avnet; ComponentLink5Description: https://datasheet.ciiva.com/29926/crcw0201e3-29926006.pdf?src-supplier=Avnet; Medical Grade MFR PN: TBD; Supplier 1: Digikey; Supplier Part Number 1: 541-CRCW02012M20FNEDCT-ND
footprint R0201_C (Chip Resistor, 2-Leads, Body 0.60x0.30mm, IPC High Density)
pins: 1, 2

## CRCW02012M40FNED
designator R?  value 2.4M  Tolerance: 1%  (hidden comment: CRCW02012M40FNED)
Fixed Resistor, Metal Glaze/thick Film, 0.05W, 2400000ohm, 30V, 1% +/-Tol, 200ppm/Cel, Surface Mount, 0201; Manufacturer: Vishay Draloric; Medical Grade MFR: TBD; Power: 50mW; Rated Temperature: 70°C; Temperature Coefficient: 200ppm/°C; Category: Chip SMD Resistors; Supplier: Digikey; Supplier Part Number: 541-CRCW02011M80FNEDCT-ND; Manufacturer Part Number: CRCW02012M40FNED; RoHS: Yes; Stock: 32348; Pricing: 1=0,1, 10=0,037, 50=0,0242, 100=0,0204, 500=0,01426, 1000=0,01241, 5000=0,00924 (USD); Mounting Technology: Surface Mount; Pins: 2; Package Shape: Rectangular; Case/Package: 0201; Terminal Finish: Nickel; Min Operating Temperature: -55°C; Max Operating Temperature: 155°C; JESD-609 Code: e3; Resistor Type: FIXED RESISTOR; Packaging: Tape and Reel; Technology: METAL GLAZE/THICK FILM; Termination: Wraparound; Working Voltage: 30V; Reach SVHC Compliant: Yes; RoHS Compliant: Yes; ComponentLink1URL: https://datasheet.ciiva.com:443/pdfs/VipMasterIC/IC/VISH/VISH-S-A0002932828/VISH-S-A0002932828-1.pdf?src-supplier=IHS+Markit; ComponentLink1Description: https://datasheet.ciiva.com:443/pdfs/VipMasterIC/IC/VISH/VISH-S-A0002932828/VISH-S-A0002932828-1.pdf?src-supplier=IHS+Markit; ComponentLink2URL: https://datasheet.ciiva.com/7800/1719906-7800925.pdf?src-supplier=Element14; ComponentLink2Description: https://datasheet.ciiva.com/7800/1719906-7800925.pdf?src-supplier=Element14; ComponentLink3URL: https://datasheet.ciiva.com/7800/1719906-7800926.pdf?src-supplier=Element14; ComponentLink3Description: https://datasheet.ciiva.com/7800/1719906-7800926.pdf?src-supplier=Element14; ComponentLink4URL: https://datasheet.ciiva.com/22675/1700795-22675997.pdf?src-supplier=Element14; ComponentLink4Description: https://datasheet.ciiva.com/22675/1700795-22675997.pdf?src-supplier=Element14; ComponentLink5URL: https://datasheet.ciiva.com/22692/1719906-22692765.pdf?src-supplier=Element14; ComponentLink5Description: https://datasheet.ciiva.com/22692/1719906-22692765.pdf?src-supplier=Element14; Medical Grade MFR PN: TBD; Supplier 1: Digikey; Supplier Part Number 1: 541-CRCW02012M40FNEDCT-ND
footprint R0201_C (Chip Resistor, 2-Leads, Body 0.60x0.30mm, IPC High Density)
pins: 1, 2

## CRCW02014K02FNED
designator R?  value 4k02  Tolerance: 1%  (hidden comment: CRCW02014K02FNED)
Fixed Resistor, Metal Glaze/thick Film, 0.05W, 4020ohm, 30V, 1% +/-Tol, 200ppm/Cel, Surface Mount, 0201; Manufacturer: Vishay; Medical Grade MFR: Mini-Systems; Medical Grade MFR PN: MWA96SM-4021F-NS62TR; Power: 50mW; Rated Temperature: 70°C; Temperature Coefficient: 200ppm/°C; Package Height: 0.23mm; Package Length: 0.6mm; Package Width: 0.3mm; Reference Standard: AEC-Q200; Category: Chip SMD Resistors; Supplier: Digikey; Supplier Part Number: 541-CRCW02014K02FNEDCT-ND; Manufacturer Part Number: CRCW02014K02FNED; RoHS: Yes; Stock: 14472; Pricing: 1=0,1, 10=0,037, 50=0,0242, 100=0,0204, 500=0,01426, 1000=0,01241, 5000=0,00924 (USD); Mounting Technology: Surface Mount; Pins: 2; Package Shape: Rectangular; Case/Package: 0201; Terminal Finish: Nickel; Min Operating Temperature: -55°C; Max Operating Temperature: 155°C; JESD-609 Code: e3; Resistor Type: FIXED RESISTOR; Construction: Chip; Package Style: SMTMeter; Packaging: Tape and Reel; Technology: METAL GLAZE/THICK FILM; Termination: Wraparound; Working Voltage: 30V; Reach SVHC Compliant: Yes; RoHS Compliant: Yes; ComponentLink1URL: https://datasheet.ciiva.com:443/pdfs/VipMasterIC/IC/VISH/VISH-S-A0002932828/VISH-S-A0002932828-1.pdf?src-supplier=IHS+Markit; ComponentLink1Description: https://datasheet.ciiva.com:443/pdfs/VipMasterIC/IC/VISH/VISH-S-A0002932828/VISH-S-A0002932828-1.pdf?src-supplier=IHS+Markit; ComponentLink2URL: https://datasheet.ciiva.com/7690/1719906-7690620.pdf?src-supplier=Element14; ComponentLink2Description: https://datasheet.ciiva.com/7690/1719906-7690620.pdf?src-supplier=Element14; ComponentLink3URL: https://datasheet.ciiva.com/7690/1719906-7690621.pdf?src-supplier=Element14; ComponentLink3Description: https://datasheet.ciiva.com/7690/1719906-7690621.pdf?src-supplier=Element14; ComponentLink4URL: https://datasheet.ciiva.com/9074/crcw0201e3-9074873.pdf?src-supplier=Avnet; ComponentLink4Description: https://datasheet.ciiva.com/9074/crcw0201e3-9074873.pdf?src-supplier=Avnet; ComponentLink5URL: https://datasheet.ciiva.com/22675/1700795-22675166.pdf?src-supplier=Element14; ComponentLink5Description: https://datasheet.ciiva.com/22675/1700795-22675166.pdf?src-supplier=Element14; Supplier 1: Digikey; Supplier Part Number 1: 541-CRCW02014K02FNEDCT-ND
footprint R0201_C (Chip Resistor, 2-Leads, Body 0.60x0.30mm, IPC High Density)
pins: 1, 2

## CRCW02014M70FNED
designator R?  value 4.7M  Tolerance: 1%  (hidden comment: CRCW02014M70FNED)
Fixed Resistor, Metal Glaze/thick Film, 0.05W, 4700000ohm, 30V, 1% +/-Tol, 200ppm/Cel, Surface Mount, 0201; Manufacturer: Vishay Dale; Medical Grade MFR: TBD; Manufacturer Series: CRCW0201E3; Power: 50mW; Rated Temperature: 70°C; Temperature Coefficient: 200ppm/°C; Category: Chip SMD Resistors; Supplier: Digikey; Supplier Part Number: 541-CRCW02015M10FNEDCT-ND; Manufacturer Part Number: CRCW02014M70FNED; RoHS: Yes; Stock: 56300; Pricing: 1=0,1, 10=0,037, 50=0,0242, 100=0,0204, 500=0,01426, 1000=0,01241, 5000=0,00924 (USD); Mounting Technology: Surface Mount; Pins: 2; Package Shape: Rectangular; Case/Package: 0201; Terminal Finish: Nickel; Min Operating Temperature: -55°C; Max Operating Temperature: 155°C; JESD-609 Code: e3; Resistor Type: FIXED RESISTOR; Packaging: Tape and Reel; Technology: METAL GLAZE/THICK FILM; Termination: Wraparound; Working Voltage: 30V; Reach SVHC Compliant: Yes; RoHS Compliant: Yes; ComponentLink1URL: https://datasheet.ciiva.com:443/pdfs/VipMasterIC/IC/VISH/VISH-S-A0002932828/VISH-S-A0002932828-1.pdf?src-supplier=IHS+Markit; ComponentLink1Description: https://datasheet.ciiva.com:443/pdfs/VipMasterIC/IC/VISH/VISH-S-A0002932828/VISH-S-A0002932828-1.pdf?src-supplier=IHS+Markit; ComponentLink2URL: https://datasheet.ciiva.com/7843/1719906-7843192.pdf?src-supplier=Element14; ComponentLink2Description: https://datasheet.ciiva.com/7843/1719906-7843192.pdf?src-supplier=Element14; ComponentLink3URL: https://datasheet.ciiva.com/7843/1719906-7843193.pdf?src-supplier=Element14; ComponentLink3Description: https://datasheet.ciiva.com/7843/1719906-7843193.pdf?src-supplier=Element14; ComponentLink4URL: https://datasheet.ciiva.com/6073/1719906-6073775.pdf?src-supplier=Farnell; ComponentLink4Description: https://datasheet.ciiva.com/6073/1719906-6073775.pdf?src-supplier=Farnell; Medical Grade MFR PN: TBD; Supplier 1: Digikey; Supplier Part Number 1: 541-CRCW02014M70FNEDCT-ND
footprint R0201_C (Chip Resistor, 2-Leads, Body 0.60x0.30mm, IPC High Density)
pins: 1, 2

## CRCW02015K11FNED
designator R?  value 5k11  Tolerance: 1%  (hidden comment: CRCW02015K11FNED)
Fixed Resistor, Metal Glaze/thick Film, 0.05W, 5110ohm, 30V, 1% +/-Tol, 200ppm/Cel, Surface Mount, 0201; Manufacturer: Vishay; Medical Grade MFR: Mini-Systems; Medical Grade MFR PN: MWA96SM-5111F-NS62TR; Temperature Coefficient: 200ppm/°C; Power: 50mW; Rated Temperature: 70°C; Package Height: 0.23mm; Package Length: 0.6mm; Package Width: 0.3mm; Reference Standard: AEC-Q200; Packaging: Tape and Reel; Termination: Wraparound; Max Operating Temperature: 155°C; Case/Package: 0201; Min Operating Temperature: -55°C; Supplier: Digikey; Supplier Part Number: 541-CRCW02015K11FNEDCT-ND; Manufacturer Part Number: CRCW02015K11FNED; RoHS: Yes; Category: Chip SMD Resistors; Stock: 23740; Pricing: 1=0,1, 10=0,037, 50=0,0242, 100=0,0204, 500=0,01426, 1000=0,01241, 5000=0,00924 (USD); Mounting Technology: Surface Mount; Pins: 2; Package Shape: Rectangular; Terminal Finish: Nickel; JESD-609 Code: e3; Resistor Type: FIXED RESISTOR; Construction: Chip; Package Style: SMTMeter; Technology: METAL GLAZE/THICK FILM; Working Voltage: 30V; Reach SVHC Compliant: Yes; RoHS Compliant: Yes; ComponentLink1URL: https://datasheet.ciiva.com:443/pdfs/VipMasterIC/IC/VISH/VISH-S-A0002932828/VISH-S-A0002932828-1.pdf?src-supplier=IHS+Markit; ComponentLink1Description: https://datasheet.ciiva.com:443/pdfs/VipMasterIC/IC/VISH/VISH-S-A0002932828/VISH-S-A0002932828-1.pdf?src-supplier=IHS+Markit; ComponentLink2URL: https://datasheet.ciiva.com/2577/crcw0201e3-2577232.pdf?src-supplier=Digikey; ComponentLink2Description: https://datasheet.ciiva.com/2577/crcw0201e3-2577232.pdf?src-supplier=Digikey; ComponentLink3URL: https://datasheet.ciiva.com/9067/crcw0201e3-9067501.pdf?src-supplier=Avnet; ComponentLink3Description: https://datasheet.ciiva.com/9067/crcw0201e3-9067501.pdf?src-supplier=Avnet; ComponentLink4URL: https://datasheet.ciiva.com/22707/1719906-22707711.pdf?src-supplier=Element14; ComponentLink4Description: https://datasheet.ciiva.com/22707/1719906-22707711.pdf?src-supplier=Element14; ComponentLink5URL: https://datasheet.ciiva.com/7690/1719906-7690629.pdf?src-supplier=Element14; ComponentLink5Description: https://datasheet.ciiva.com/7690/1719906-7690629.pdf?src-supplier=Element14; Supplier 1: Digikey; Supplier Part Number 1: 541-CRCW02015K11FNEDCT-ND
footprint R0201_C (Chip Resistor, 2-Leads, Body 0.60x0.30mm, IPC High Density)
pins: 1, 2

## CRCW02015M10FNED
designator R?  value 5.1M  Tolerance: 1%  (hidden comment: CRCW02015M10FNED)
Fixed Resistor, Metal Glaze/thick Film, 0.05W, 5100000ohm, 30V, 1% +/-Tol, 200ppm/Cel, Surface Mount, 0201; Manufacturer: Vishay Draloric; Medical Grade MFR: TBD; Manufacturer Series: CRCW0201E3; Power: 50mW; Rated Temperature: 70°C; Temperature Coefficient: 200ppm/°C; Category: Chip SMD Resistors; Supplier: Digikey; Supplier Part Number: 541-CRCW02015M10FNEDCT-ND; Manufacturer Part Number: CRCW02015M10FNED; RoHS: Yes; Stock: 56300; Pricing: 1=0,1, 10=0,037, 50=0,0242, 100=0,0204, 500=0,01426, 1000=0,01241, 5000=0,00924 (USD); Mounting Technology: Surface Mount; Pins: 2; Package Shape: Rectangular; Case/Package: 0201; Terminal Finish: Nickel; Min Operating Temperature: -55°C; Max Operating Temperature: 155°C; JESD-609 Code: e3; Resistor Type: FIXED RESISTOR; Packaging: Tape and Reel; Technology: METAL GLAZE/THICK FILM; Termination: Wraparound; Working Voltage: 30V; Reach SVHC Compliant: Yes; RoHS Compliant: Yes; ComponentLink1URL: https://datasheet.ciiva.com:443/pdfs/VipMasterIC/IC/VISH/VISH-S-A0002932828/VISH-S-A0002932828-1.pdf?src-supplier=IHS+Markit; ComponentLink1Description: https://datasheet.ciiva.com:443/pdfs/VipMasterIC/IC/VISH/VISH-S-A0002932828/VISH-S-A0002932828-1.pdf?src-supplier=IHS+Markit; ComponentLink2URL: https://datasheet.ciiva.com/7843/1719906-7843192.pdf?src-supplier=Element14; ComponentLink2Description: https://datasheet.ciiva.com/7843/1719906-7843192.pdf?src-supplier=Element14; ComponentLink3URL: https://datasheet.ciiva.com/7843/1719906-7843193.pdf?src-supplier=Element14; ComponentLink3Description: https://datasheet.ciiva.com/7843/1719906-7843193.pdf?src-supplier=Element14; ComponentLink4URL: https://datasheet.ciiva.com/6073/1719906-6073775.pdf?src-supplier=Farnell; ComponentLink4Description: https://datasheet.ciiva.com/6073/1719906-6073775.pdf?src-supplier=Farnell; Medical Grade MFR PN: TBD; Supplier 1: Digikey; Supplier Part Number 1: 541-CRCW02015M10FNEDCT-ND
footprint R0201_C (Chip Resistor, 2-Leads, Body 0.60x0.30mm, IPC High Density)
pins: 1, 2

## CRCW02015M10FNED_1
designator R?, comment value 5M1  Tolerance: 1%  (hidden comment: CRCW02015M10FNED)
Fixed Resistor, Metal Glaze/thick Film, 0.05W, 5100000ohm, 30V, 1% +/-Tol, 200ppm/Cel, Surface Mount, 0201; Manufacturer: Vishay Draloric; Manufacturer Series: CRCW0201E3; Medical Grade MFR: TBD; Power: 50mW; Rated Temperature: 70°C; Temperature Coefficient: 200ppm/°C; Supplier: Digikey; Supplier Part Number: 541-CRCW02015M10FNEDCT-ND; Manufacturer Part Number: CRCW02015M10FNED; RoHS: Yes; Category: Chip SMD Resistors; Stock: 56300; Pricing: 1=0,1, 10=0,037, 50=0,0242, 100=0,0204, 500=0,01426, 1000=0,01241, 5000=0,00924 (USD); Mounting Technology: Surface Mount; Pins: 2; Package Shape: Rectangular; Case/Package: 0201; Terminal Finish: Nickel; Min Operating Temperature: -55°C; Max Operating Temperature: 155°C; JESD-609 Code: e3; Resistor Type: FIXED RESISTOR; Packaging: Tape and Reel; Technology: METAL GLAZE/THICK FILM; Termination: Wraparound; Working Voltage: 30V; Reach SVHC Compliant: Yes; RoHS Compliant: Yes; ComponentLink1URL: https://datasheet.ciiva.com:443/pdfs/VipMasterIC/IC/VISH/VISH-S-A0002932828/VISH-S-A0002932828-1.pdf?src-supplier=IHS+Markit; ComponentLink1Description: https://datasheet.ciiva.com:443/pdfs/VipMasterIC/IC/VISH/VISH-S-A0002932828/VISH-S-A0002932828-1.pdf?src-supplier=IHS+Markit; ComponentLink2URL: https://datasheet.ciiva.com/7843/1719906-7843192.pdf?src-supplier=Element14; ComponentLink2Description: https://datasheet.ciiva.com/7843/1719906-7843192.pdf?src-supplier=Element14; ComponentLink3URL: https://datasheet.ciiva.com/7843/1719906-7843193.pdf?src-supplier=Element14; ComponentLink3Description: https://datasheet.ciiva.com/7843/1719906-7843193.pdf?src-supplier=Element14; ComponentLink4URL: https://datasheet.ciiva.com/6073/1719906-6073775.pdf?src-supplier=Farnell; ComponentLink4Description: https://datasheet.ciiva.com/6073/1719906-6073775.pdf?src-supplier=Farnell; Medical Grade MFR PN: TBD; Supplier 1: Digikey; Supplier Part Number 1: 541-CRCW02015M10FNEDCT-ND
footprint R0201_C (Chip Resistor, 2-Leads, Body 0.60x0.30mm, IPC High Density)
pins: 1, 2